# EAGLE library part XS1-U8A-124-FB217 (library Strutz Electronic Industries)
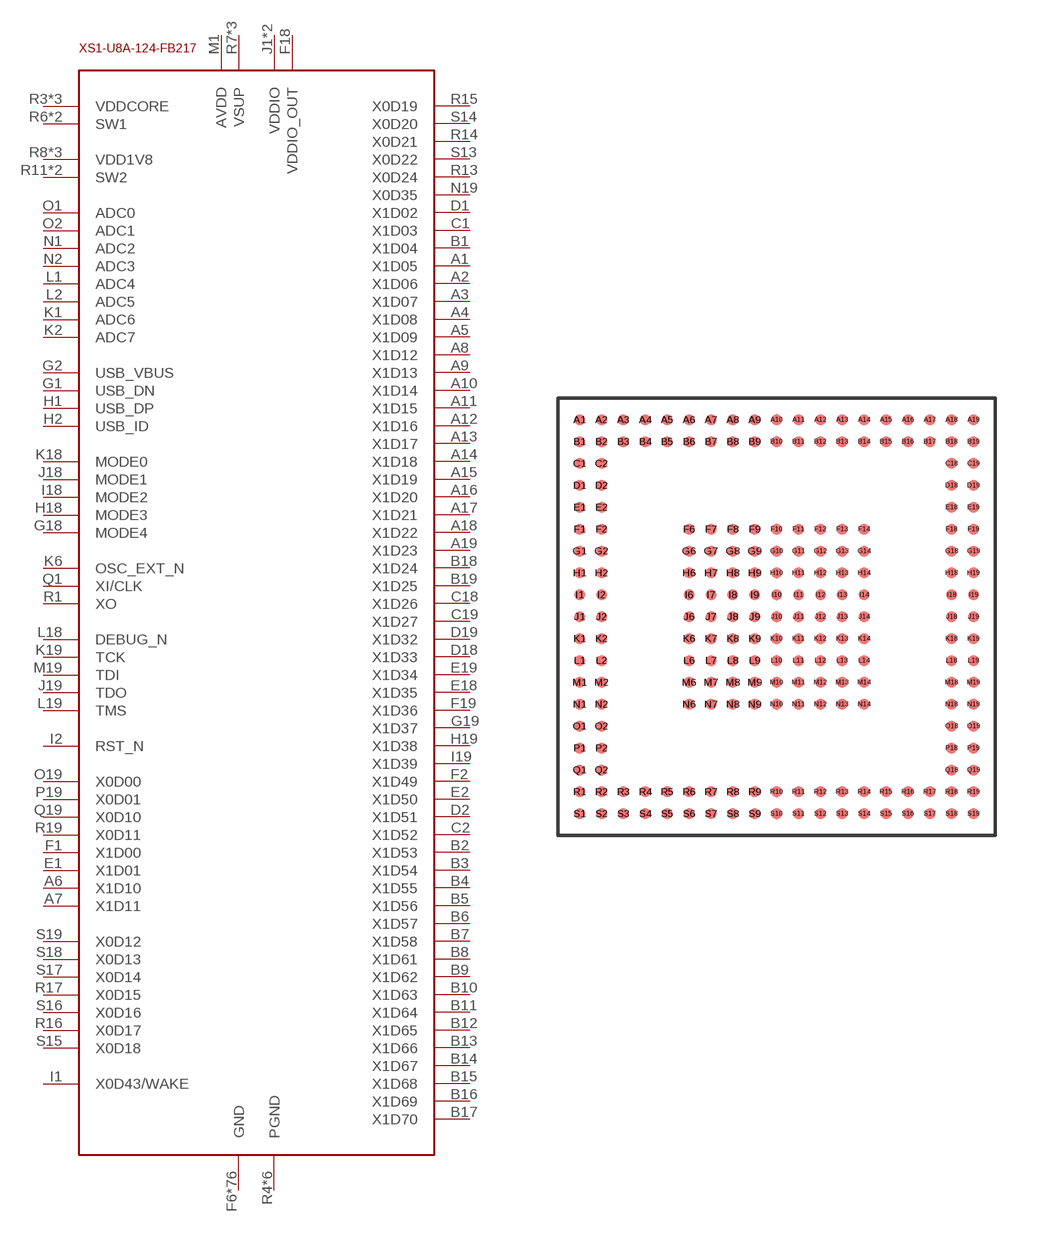
[diagram p37: symbol with the pads of 217-BGA(.8MM); footprint 217-BGA(.8MM)]

Designator prefix -

## XS1-U8A-124-FB217  [217-BGA(.8MM)]
A1  X1D05
A2  X1D06
A3  X1D07
A4  X1D08
A5  X1D09
A6  X1D10
A7  X1D11
A8  X1D12
A9  X1D13
A10  X1D14
A11  X1D15
A12  X1D16
A13  X1D17
A14  X1D18
A15  X1D19
A16  X1D20
A17  X1D21
A18  X1D22
A19  X1D23
B1  X1D04
B2  X1D53
B3  X1D54
B4  X1D55
B5  X1D56
B6  X1D57
B7  X1D58
B8  X1D61
B9  X1D62
B10  X1D63
B11  X1D64
B12  X1D65
B13  X1D66
B14  X1D67
B15  X1D68
B16  X1D69
B17  X1D70
B18  X1D24
B19  X1D25
C1  X1D03
C2  X1D52
C18  X1D26
C19  X1D27
D1  X1D02
D2  X1D51
D18  X1D33
D19  X1D32
E1  X1D01
E2  X1D50
E18  X1D35
E19  X1D34
F1  X1D00
F2  X1D49
F6  GND
F7  GND
F8  GND
F9  GND
F10  GND
F11  GND
F12  GND
F13  GND
F14  GND
F18  VDDIO_OUT
F19  X1D36
G1  USB_DN
G2  USB_VBUS
G6  GND
G7  GND
G8  GND
G9  GND
G10  GND
G11  GND
G12  GND
G13  GND
G14  GND
G18  MODE4
G19  X1D37
H1  USB_DP
H2  USB_ID
H6  GND
H7  GND
H8  GND
H9  GND
H10  GND
H11  GND
H12  GND
H13  GND
H14  GND
H18  MODE3
H19  X1D38
I1  X0D43/WAKE
I2  RST_N
I6  GND
I7  GND
I8  GND
I9  GND
I10  GND
I11  GND
I12  GND
I13  GND
I14  GND
I18  MODE2
I19  X1D39
J1  VDDIO
J2  VDDIO
J6  GND
J7  GND
J8  GND
J9  GND
J10  GND
J11  GND
J12  GND
J13  GND
J14  GND
J18  MODE1
J19  TDO
K1  ADC6
K2  ADC7
K6  OSC_EXT_N
K7  GND
K8  GND
K9  GND
K10  GND
K11  GND
K12  GND
K13  GND
K14  GND
K18  MODE0
K19  TCK
L1  ADC4
L2  ADC5
L8  GND
L9  GND
L10  GND
L11  GND
L12  GND
L13  GND
L14  GND
L18  DEBUG_N
L19  TMS
M1  AVDD
M8  GND
M9  GND
M10  GND
M11  GND
M12  GND
M13  GND
M14  GND
M19  TDI
N1  ADC2
N2  ADC3
N6  GND
N7  GND
N8  GND
N9  GND
N10  GND
N11  GND
N12  GND
N13  GND
N14  GND
N19  X0D35
O1  ADC0
O2  ADC1
O19  X0D00
P19  X0D01
Q1  XI/CLK
Q19  X0D10
R1  XO
R3  VDDCORE
R4  PGND
R5  PGND
R6  SW1
R7  VSUP
R8  VDD1V8
R9  PGND
R10  PGND
R11  SW2
R13  X0D24
R14  X0D21
R15  X0D19
R16  X0D17
R17  X0D15
R19  X0D11
S1  VSUP
S3  VDDCORE
S4  VDDCORE
S5  PGND
S6  SW1
S7  VSUP
S8  VDD1V8
S9  VDD1V8
S10  PGND
S11  SW2
S13  X0D22
S14  X0D20
S15  X0D18
S16  X0D16
S17  X0D14
S18  X0D13
S19  X0D12

## Footprint 217-BGA(.8MM) (pad centres in mm)
smd 0.4 x 0.4: A1 -7.2,7.2; A2 -6.4,7.2; A3 -5.6,7.2; A4 -4.8,7.2; A5 -4,7.2; A6 -3.2,7.2; A7 -2.4,7.2; A8 -1.6,7.2; A9 -0.8,7.2; A10 0,7.2; A11 0.8,7.2; A12 1.6,7.2; A13 2.4,7.2; A14 3.2,7.2; A15 4,7.2; A16 4.8,7.2; A17 5.6,7.2; A18 6.4,7.2; A19 7.2,7.2; B1 -7.2,6.4; B2 -6.4,6.4; B3 -5.6,6.4; B4 -4.8,6.4; B5 -4,6.4; B6 -3.2,6.4; B7 -2.4,6.4; B8 -1.6,6.4; B9 -0.8,6.4; B10 0,6.4; B11 0.8,6.4; B12 1.6,6.4; B13 2.4,6.4; B14 3.2,6.4; B15 4,6.4; B16 4.8,6.4; B17 5.6,6.4; B18 6.4,6.4; B19 7.2,6.4; C1 -7.2,5.6; C2 -6.4,5.6; C18 6.4,5.6; C19 7.2,5.6; D1 -7.2,4.8; D2 -6.4,4.8; D18 6.4,4.8; D19 7.2,4.8; E1 -7.2,4; E2 -6.4,4; E18 6.4,4; E19 7.2,4; F1 -7.2,3.2; F2 -6.4,3.2; F6 -3.2,3.2; F7 -2.4,3.2; F8 -1.6,3.2; F9 -0.8,3.2; F10 0,3.2; F11 0.8,3.2; F12 1.6,3.2; F13 2.4,3.2; F14 3.2,3.2; F18 6.4,3.2; F19 7.2,3.2; G1 -7.2,2.4; G2 -6.4,2.4; G6 -3.2,2.4; G7 -2.4,2.4; G8 -1.6,2.4; G9 -0.8,2.4; G10 0,2.4; G11 0.8,2.4; G12 1.6,2.4; G13 2.4,2.4; G14 3.2,2.4; G18 6.4,2.4; G19 7.2,2.4; H1 -7.2,1.6; H2 -6.4,1.6; H6 -3.2,1.6; H7 -2.4,1.6; H8 -1.6,1.6; H9 -0.8,1.6; H10 0,1.6; H11 0.8,1.6; H12 1.6,1.6; H13 2.4,1.6; H14 3.2,1.6; H18 6.4,1.6; H19 7.2,1.6; I1 -7.2,0.8; I2 -6.4,0.8; I6 -3.2,0.8; I7 -2.4,0.8; I8 -1.6,0.8; I9 -0.8,0.8; I10 0,0.8; I11 0.8,0.8; I12 1.6,0.8; I13 2.4,0.8; I14 3.2,0.8; I18 6.4,0.8; I19 7.2,0.8; J1 -7.2,0; J2 -6.4,0; J6 -3.2,0; J7 -2.4,0; J8 -1.6,0; J9 -0.8,0; J10 0,0; J11 0.8,0; J12 1.6,0; J13 2.4,0; J14 3.2,0; J18 6.4,0; J19 7.2,0; K1 -7.2,-0.8; K2 -6.4,-0.8; K6 -3.2,-0.8; K7 -2.4,-0.8; K8 -1.6,-0.8; K9 -0.8,-0.8; K10 0,-0.8; K11 0.8,-0.8; K12 1.6,-0.8; K13 2.4,-0.8; K14 3.2,-0.8; K18 6.4,-0.8; K19 7.2,-0.8; L1 -7.2,-1.6; L2 -6.4,-1.6; L6 -3.2,-1.6; L7 -2.4,-1.6; L8 -1.6,-1.6; L9 -0.8,-1.6; L10 0,-1.6; L11 0.8,-1.6; L12 1.6,-1.6; L13 2.4,-1.6; L14 3.2,-1.6; L18 6.4,-1.6; L19 7.2,-1.6; M1 -7.2,-2.4; M2 -6.4,-2.4; M6 -3.2,-2.4; M7 -2.4,-2.4; M8 -1.6,-2.4; M9 -0.8,-2.4; M10 0,-2.4; M11 0.8,-2.4; M12 1.6,-2.4; M13 2.4,-2.4; M14 3.2,-2.4; M18 6.4,-2.4; M19 7.2,-2.4; N1 -7.2,-3.2; N2 -6.4,-3.2; N6 -3.2,-3.2; N7 -2.4,-3.2; N8 -1.6,-3.2; N9 -0.8,-3.2; N10 0,-3.2; N11 0.8,-3.2; N12 1.6,-3.2; N13 2.4,-3.2; N14 3.2,-3.2; N18 6.4,-3.2; N19 7.2,-3.2; O1 -7.2,-4; O2 -6.4,-4; O18 6.4,-4; O19 7.2,-4; P1 -7.2,-4.8; P2 -6.4,-4.8; P18 6.4,-4.8; P19 7.2,-4.8; Q1 -7.2,-5.6; Q2 -6.4,-5.6; Q18 6.4,-5.6; Q19 7.2,-5.6; R1 -7.2,-6.4; R2 -6.4,-6.4; R3 -5.6,-6.4; R4 -4.8,-6.4; R5 -4,-6.4; R6 -3.2,-6.4; R7 -2.4,-6.4; R8 -1.6,-6.4; R9 -0.8,-6.4; R10 0,-6.4; R11 0.8,-6.4; R12 1.6,-6.4; R13 2.4,-6.4; R14 3.2,-6.4; R15 4,-6.4; R16 4.8,-6.4; R17 5.6,-6.4; R18 6.4,-6.4; R19 7.2,-6.4; S1 -7.2,-7.2; S2 -6.4,-7.2; S3 -5.6,-7.2; S4 -4.8,-7.2; S5 -4,-7.2; S6 -3.2,-7.2; S7 -2.4,-7.2; S8 -1.6,-7.2; S9 -0.8,-7.2; S10 0,-7.2; S11 0.8,-7.2; S12 1.6,-7.2; S13 2.4,-7.2; S14 3.2,-7.2; S15 4,-7.2; S16 4.8,-7.2; S17 5.6,-7.2; S18 6.4,-7.2; S19 7.2,-7.2